# Altium footprint library JST_S4B-PH-K-S.PcbLib: 1 footprints
Each footprint in its own frame and in the unit in brackets; x right, y up, seen from the top. Pads: shape width x height; smd on the part's side, far side on the other; paste and mask are expansions set on the pad; w line width, h text height; cw(c..) or ccw(c..) is an arc to the next point about the centre after c.
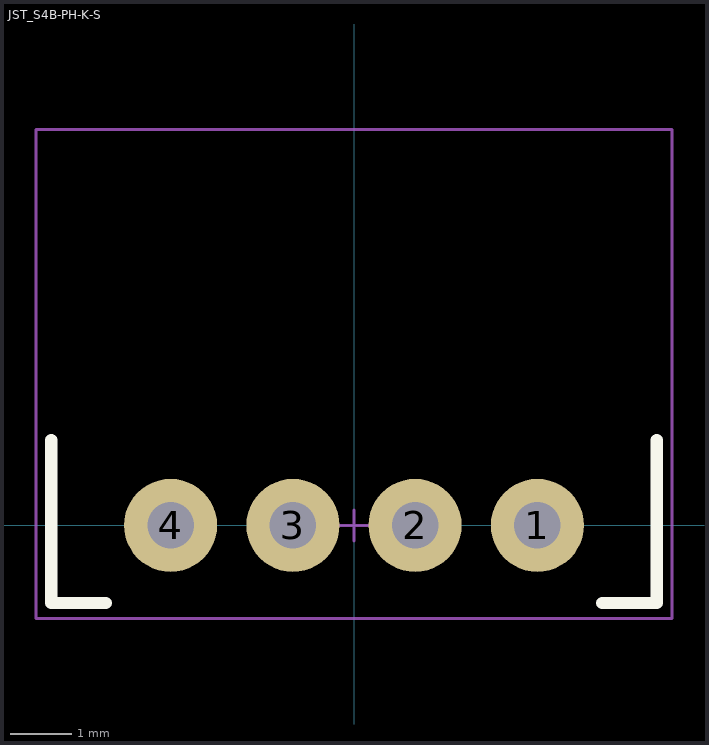
[diagram p0: the footprint, top view; thin cyan lines are the x and y axes]

## JST_S4B-PH-K-S [mil]
pads (4):
  round 60 hole 30: 1(118.11,0) 2(39.37,0) 3(-39.37,0) 4(-118.11,0)
Top Overlay:
  lines w7.87: -195,55 -195,-50 -160,-50 ; 160,-50 195,-50 195,55
Mechanical 15:
  lines w1.97: -10,0 10,0 ; 0,-10 0,10 ; -205,-60 205,-60 205,255 -205,255 -205,-60
3D body "JST-S4B-PH-K-S.STEP": height 188.98, standoff -133.86, extent -194.88,-50 194.88,249.21